# Altium footprint library SamacSys.PcbLib: 2 footprints
Each footprint in its own frame and in the unit in brackets; x right, y up, seen from the top. Pads: shape width x height; smd on the part's side, far side on the other; paste and mask are expansions set on the pad; w line width, h text height; cw(c..) or ccw(c..) is an arc to the next point about the centre after c.
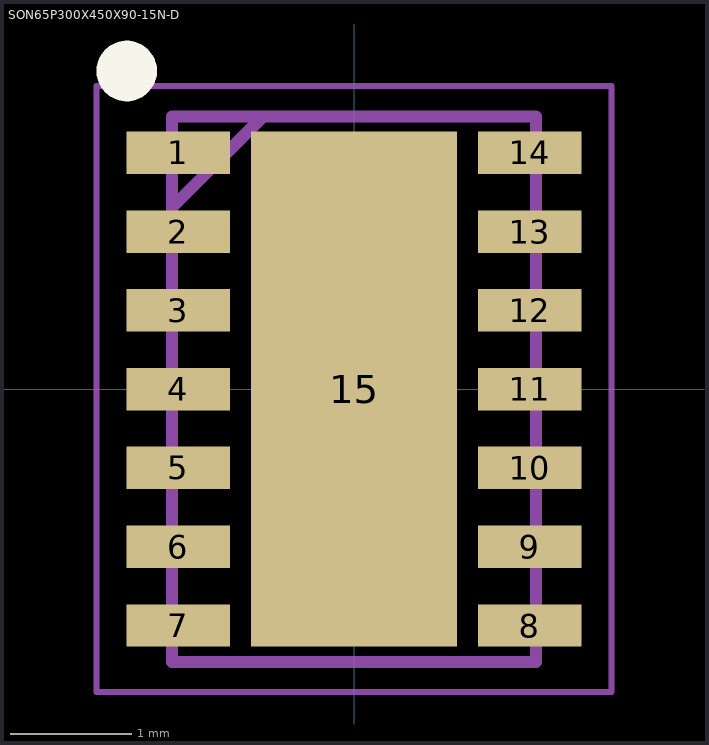
[diagram p0: the footprints below, top view; thin cyan lines are the x and y axes]

## PCBComponent_1 [mm]

## SON65P300X450X90-15N-D [mm]
pads (15):
  rect 0.85x0.35 smd: 1(-1.45,1.95) 2(-1.45,1.3) 3(-1.45,0.65) 4(-1.45,0) 5(-1.45,-0.65) 6(-1.45,-1.3) 7(-1.45,-1.95) 8(1.45,-1.95) 9(1.45,-1.3) 10(1.45,-0.65) 11(1.45,0) 12(1.45,0.65) 13(1.45,1.3) 14(1.45,1.95)
  rect 1.7x4.25 smd: 15(0,0)
Top Overlay:
  circle w0.25: c-1.875,2.625 r0.125
Mechanical 13:
  lines w0.1: -1.5,1.5 -0.75,2.25 ; -1.5,-2.25 -1.5,2.25 1.5,2.25 1.5,-2.25 -1.5,-2.25
Mechanical 15:
  lines w0.05: -2.125,-2.5 -2.125,2.5 2.125,2.5 2.125,-2.5 -2.125,-2.5
3D body "MCP2518FDT-H_QBB.stp": height 0.9, standoff 0, extent -1.55,-2.25 1.55,2.25